# EAGLE library part TMS470R1A256 (library TMS470)
TMS470R1x 16/32-Bit RISC Core (ARM7TDMI®) 256 kbytes FLASH 12 kbytes SRAM 16 Channels Timer 16 Channels 10-bit A/D 2x SPI, 2x SCI, 1x C2SI 1 SCC CAN Modul 50 IO Pins Max 48 MHz
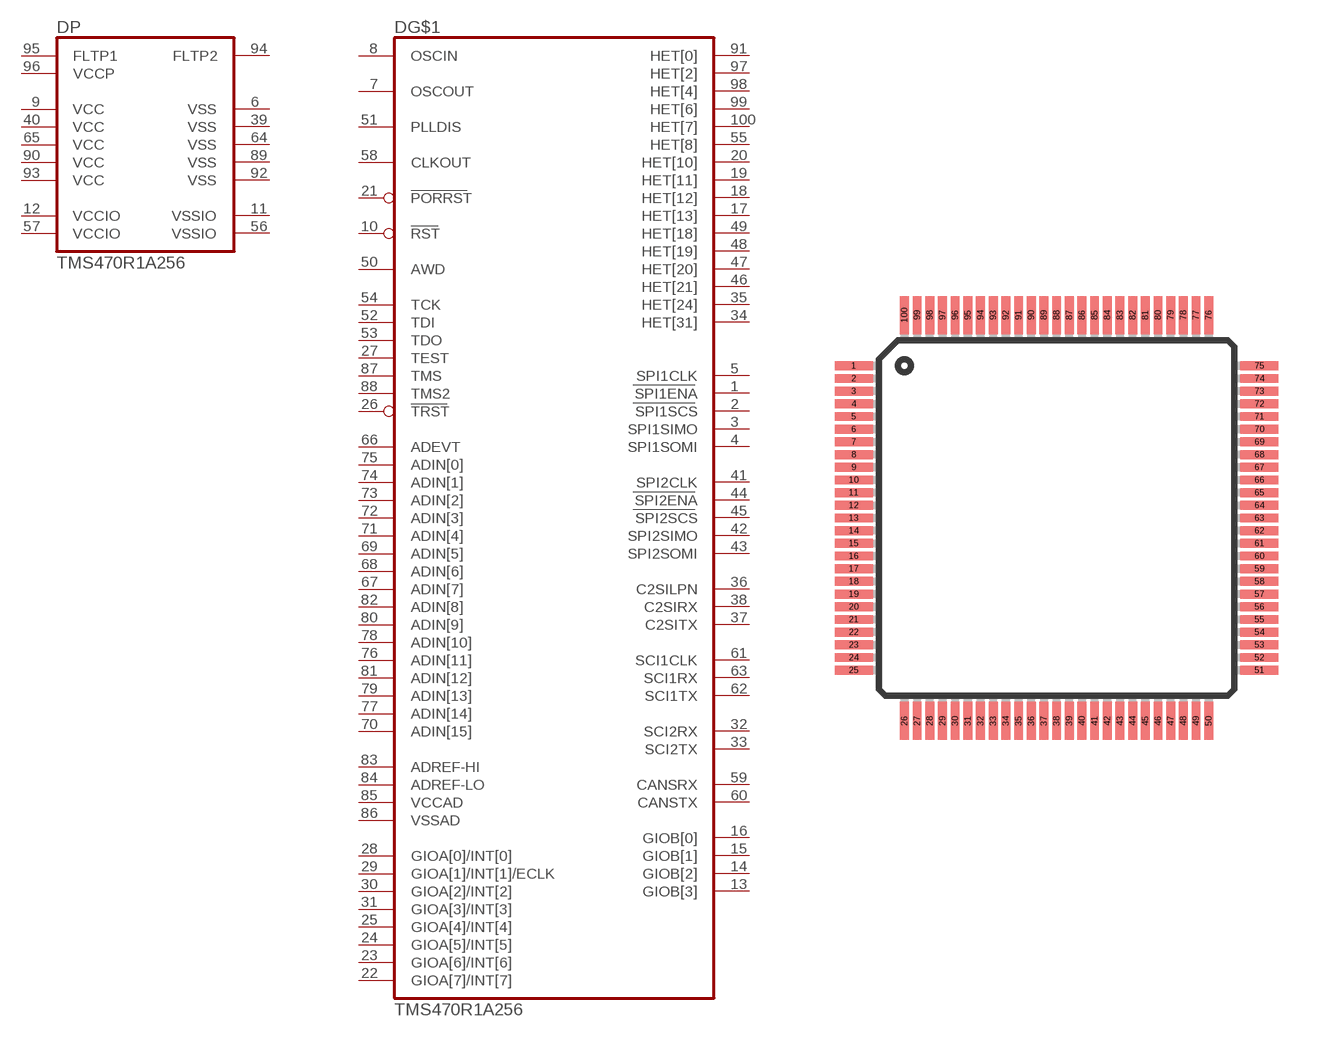
[diagram p5: symbol with the pads of PQFP100; footprint PQFP100]

Designator prefix D; gates G$1=TMS470R1A256 P=SUPPLY-256

## TMS470R1A256PZ  [PQFP100]
1  G$1:SPI1ENA
2  G$1:SPI1SCS
3  G$1:SPI1SIMO
4  G$1:SPI1SOMI
5  G$1:SPI1CLK
6  P:VSS  pwr
7  G$1:OSCOUT  out
8  G$1:OSCIN  in
9  P:VCC  pwr
10  G$1:RST
11  P:VSSIO  pwr
12  P:VCCIO  pwr
13  G$1:GIOB[3]
14  G$1:GIOB[2]
15  G$1:GIOB[1]
16  G$1:GIOB[0]
17  G$1:HET[13]
18  G$1:HET[12]
19  G$1:HET[11]
20  G$1:HET[10]
21  G$1:PORRST  in
22  G$1:GIOA[7]/INT[7]
23  G$1:GIOA[6]/INT[6]
24  G$1:GIOA[5]/INT[5]
25  G$1:GIOA[4]/INT[4]
26  G$1:TRST  in
27  G$1:TEST  in
28  G$1:GIOA[0]/INT[0]
29  G$1:GIOA[1]/INT[1]/ECLK
30  G$1:GIOA[2]/INT[2]
31  G$1:GIOA[3]/INT[3]
32  G$1:SCI2RX
33  G$1:SCI2TX
34  G$1:HET[31]
35  G$1:HET[24]
36  G$1:C2SILPN
37  G$1:C2SITX
38  G$1:C2SIRX
39  P:VSS  pwr
40  P:VCC  pwr
41  G$1:SPI2CLK
42  G$1:SPI2SIMO
43  G$1:SPI2SOMI
44  G$1:SPI2ENA
45  G$1:SPI2SCS
46  G$1:HET[21]
47  G$1:HET[20]
48  G$1:HET[19]
49  G$1:HET[18]
50  G$1:AWD  in
51  G$1:PLLDIS  in
52  G$1:TDI  in
53  G$1:TDO  out
54  G$1:TCK  in
55  G$1:HET[8]
56  P:VSSIO  pwr
57  P:VCCIO  pwr
58  G$1:CLKOUT
59  G$1:CANSRX
60  G$1:CANSTX
61  G$1:SCI1CLK
62  G$1:SCI1TX
63  G$1:SCI1RX
64  P:VSS  pwr
65  P:VCC  pwr
66  G$1:ADEVT
67  G$1:ADIN[7]  in
68  G$1:ADIN[6]  in
69  G$1:ADIN[5]  in
70  G$1:ADIN[15]  in
71  G$1:ADIN[4]  in
72  G$1:ADIN[3]  in
73  G$1:ADIN[2]  in
74  G$1:ADIN[1]  in
75  G$1:ADIN[0]  in
76  G$1:ADIN[11]  in
77  G$1:ADIN[14]  in
78  G$1:ADIN[10]  in
79  G$1:ADIN[13]  in
80  G$1:ADIN[9]  in
81  G$1:ADIN[12]  in
82  G$1:ADIN[8]  in
83  G$1:ADREF-HI  in
84  G$1:ADREF-LO  in
85  G$1:VCCAD  pwr
86  G$1:VSSAD  pwr
87  G$1:TMS  in
88  G$1:TMS2  in
89  P:VSS  pwr
90  P:VCC  pwr
91  G$1:HET[0]
92  P:VSS  pwr
93  P:VCC  pwr
94  P:FLTP2  pas
95  P:FLTP1  pas
96  P:VCCP  pwr
97  G$1:HET[2]
98  G$1:HET[4]
99  G$1:HET[6]
100  G$1:HET[7]

## Footprint PQFP100 (pad centres in mm)
Platic Quad Flat Package PZ (S-PQFP-G100)
smd 1.5 x 0.35: 1 -8,6; 2 -8,5.5; 3 -8,5; 4 -8,4.5; 5 -8,4; 6 -8,3.5; 7 -8,3; 8 -8,2.5; 9 -8,2; 10 -8,1.5; 11 -8,1; 12 -8,0.5; 13 -8,0; 14 -8,-0.5; 15 -8,-1; 16 -8,-1.5; 17 -8,-2; 18 -8,-2.5; 19 -8,-3; 20 -8,-3.5; 21 -8,-4; 22 -8,-4.5; 23 -8,-5; 24 -8,-5.5; 25 -8,-6; 51 8,-6; 52 8,-5.5; 53 8,-5; 54 8,-4.5; 55 8,-4; 56 8,-3.5; 57 8,-3; 58 8,-2.5; 59 8,-2; 60 8,-1.5; 61 8,-1; 62 8,-0.5; 63 8,0; 64 8,0.5; 65 8,1; 66 8,1.5; 67 8,2; 68 8,2.5; 69 8,3; 70 8,3.5; 71 8,4; 72 8,4.5; 73 8,5; 74 8,5.5; 75 8,6
smd 0.35 x 1.5: 26 -6,-8; 27 -5.5,-8; 28 -5,-8; 29 -4.5,-8; 30 -4,-8; 31 -3.5,-8; 32 -3,-8; 33 -2.5,-8; 34 -2,-8; 35 -1.5,-8; 36 -1,-8; 37 -0.5,-8; 38 0,-8; 39 0.5,-8; 40 1,-8; 41 1.5,-8; 42 2,-8; 43 2.5,-8; 44 3,-8; 45 3.5,-8; 46 4,-8; 47 4.5,-8; 48 5,-8; 49 5.5,-8; 50 6,-8; 76 6,8; 77 5.5,8; 78 5,8; 79 4.5,8; 80 4,8; 81 3.5,8; 82 3,8; 83 2.5,8; 84 2,8; 85 1.5,8; 86 1,8; 87 0.5,8; 88 0,8; 89 -0.5,8; 90 -1,8; 91 -1.5,8; 92 -2,8; 93 -2.5,8; 94 -3,8; 95 -3.5,8; 96 -4,8; 97 -4.5,8; 98 -5,8; 99 -5.5,8; 100 -6,8